# Altium footprint library RP2040LED.PcbLib: 20 footprints (part 1 of 2)
Each footprint in its own frame and in the unit in brackets; x right, y up, seen from the top. Pads: shape width x height; smd on the part's side, far side on the other; paste and mask are expansions set on the pad; w line width, h text height; cw(c..) or ccw(c..) is an arc to the next point about the centre after c.
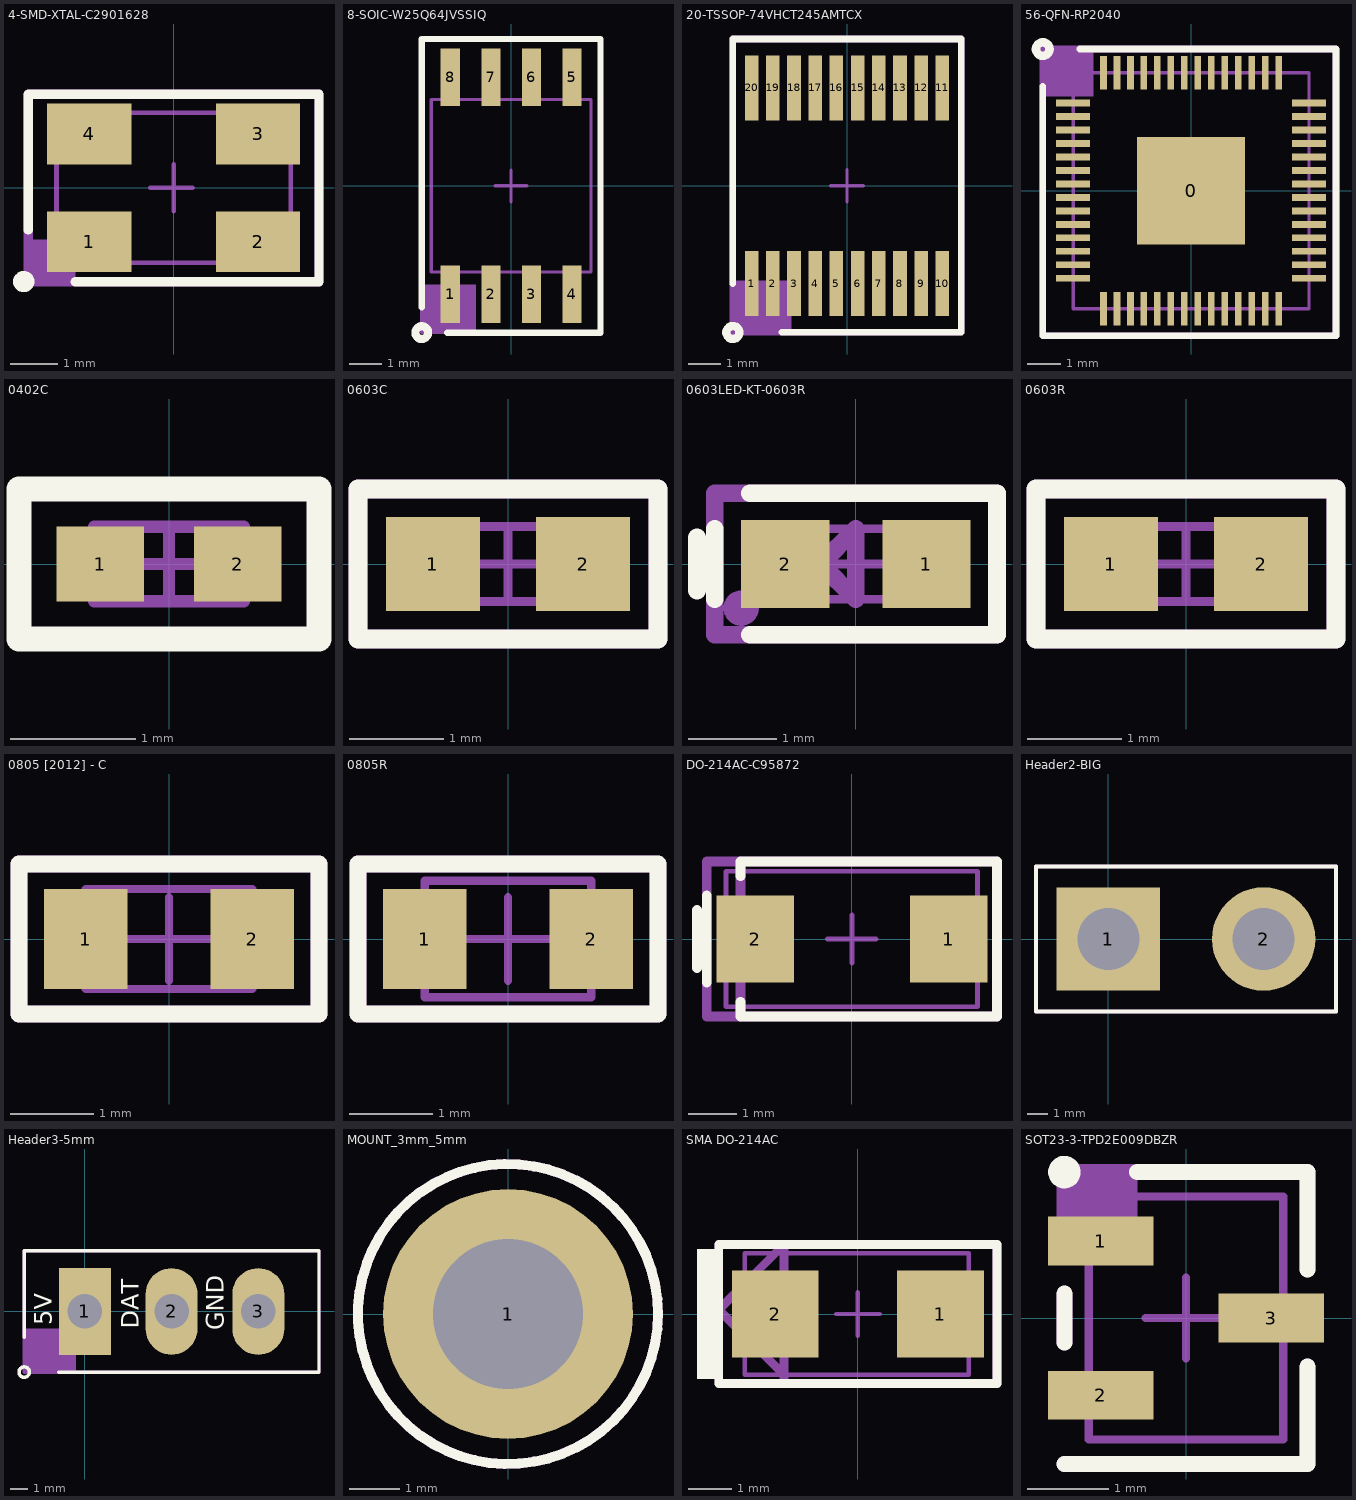
[diagram p0: the footprints below, top view; thin cyan lines are the x and y axes]

## 4-SMD-XTAL-C2901628 [mm] "SMD5032 JLC 12MHz 16pF 60ohm"
pads (4):
  rect 1.8x1.3 smd mask+0.06: 1(-1.8,-1.15) 2(1.8,-1.15) 3(1.8,1.15) 4(-1.8,1.15)
Top Overlay:
  circle w0.254: c-3.2,-2 r0.1
  lines w0.2: -3.1,-0.9 -3.1,2 3.1,2 3.1,-2 -2.1,-2
Assembly Text Top:
  text ".Designator" at -1.45,-0.3 h1
Assembly Top:
  rectangle: -3.1,-1.9 -2.1,-1.1
  lines w0.2: -3.1,-2 3.1,-2 3.1,2 -3.1,2 -3.1,-2
Courtyard Top:
  lines w0.1: -0.5,0 0.4,0 ; 0,-0.5 0,0.5 ; -2.5,-1.6 2.5,-1.6 2.5,1.6 -2.5,1.6 -2.5,-1.6
3D body: height 1.3, standoff 0, extent -2.5,-1.6 2.5,1.6

## 8-SOIC-W25Q64JVSSIQ [mm] "QSPI flash for RP2040 Winbond"
pads (8):
  rect 0.6x1.8 smd mask+0.07: 1(-1.905,-3.4) 2(-0.635,-3.4) 3(0.635,-3.4) 4(1.905,-3.4) 5(1.905,3.4) 6(0.635,3.4) 7(-0.635,3.4) 8(-1.905,3.4)
Top Overlay:
  circle w0.254: c-2.8,-4.6 r0.2
  lines w0.2: -2.8,-3.8 -2.8,4.6 2.8,4.6 2.8,-4.6 -2,-4.6
Assembly Text Top:
  text ".Designator" at -2,-0.6 h0.9
Assembly Top:
  rectangle: -2.8,-4.6 -1.1,-3.1
  lines w0.1: -2.8,-4.6 -2.8,4.6 2.8,4.6 2.8,-4.6 -2.8,-4.6
Courtyard Top:
  lines w0.1: -0.5,0 0.5,0 ; 0,-0.5 0,0.5 ; -2.5,-2.7 2.5,-2.7 2.5,2.7 -2.5,2.7 -2.5,-2.7
3D body: height 2.16, standoff 0, extent -2.64,-3.95 2.64,3.95

## 20-TSSOP-74VHCT245AMTCX [mm] "onsemi level shifter"
pads (20):
  rect 0.42x2 smd mask+0.04: 1(-2.925,-3) 2(-2.275,-3) 3(-1.625,-3) 4(-0.975,-3) 5(-0.325,-3) 6(0.325,-3) 7(0.975,-3) 8(1.625,-3) 9(2.275,-3) 10(2.925,-3) 11(2.925,3) 12(2.275,3) 13(1.625,3) 14(0.975,3) 15(0.325,3) 16(-0.325,3) 17(-0.975,3) 18(-1.625,3) 19(-2.275,3) 20(-2.925,3)
Top Overlay:
  circle w0.254: c-3.5,-4.5 r0.2
  lines w0.2: -3.5,-3 -3.5,4.5 3.5,4.5 3.5,-4.5 -2,-4.5
Assembly Text Top:
  text ".Designator" at -2.1,-0.6 h1
Assembly Top:
  rectangle: -3.5,-4.5 -1.7,-2.9
  lines w0.2: -3.5,-4.5 3.5,-4.5 3.5,4.5 -3.5,4.5 -3.5,-4.5
Courtyard Top:
  lines w0.1: -0.5,0 0.5,0 ; 0,-0.5 0,0.5
3D body: height 1.2, standoff 0, extent -3.25,-3.2 3.25,3.2

## 56-QFN-RP2040 [mm] "7x7mm"
pads (57):
  rect 3.2x3.2 smd paste-1.6 mask+0.1: 0(0,0)
  rect 1x0.2 smd mask+0.04: 1(-3.5,2.6) 2(-3.5,2.2) 3(-3.5,1.8) 4(-3.5,1.4) 5(-3.5,1) 6(-3.5,0.6) 7(-3.5,0.2) 8(-3.5,-0.2) 9(-3.5,-0.6) 10(-3.5,-1) 11(-3.5,-1.4) 12(-3.5,-1.8) 13(-3.5,-2.2) 14(-3.5,-2.6) 29(3.5,-2.6) 30(3.5,-2.2) 31(3.5,-1.8) 32(3.5,-1.4) 33(3.5,-1) 34(3.5,-0.6) 35(3.5,-0.2) 36(3.5,0.2) 37(3.5,0.6) 38(3.5,1) 39(3.5,1.4) 40(3.5,1.8) 41(3.5,2.2) 42(3.5,2.6)
  rect 0.2x1 smd mask+0.04: 15(-2.6,-3.5) 16(-2.2,-3.5) 17(-1.8,-3.5) 18(-1.4,-3.5) 19(-1,-3.5) 20(-0.6,-3.5) 21(-0.2,-3.5) 22(0.2,-3.5) 23(0.6,-3.5) 24(1,-3.5) 25(1.4,-3.5) 26(1.8,-3.5) 27(2.2,-3.5) 28(2.6,-3.5) 43(2.6,3.5) 44(2.2,3.5) 45(1.8,3.5) 46(1.4,3.5) 47(1,3.5) 48(0.6,3.5) 49(0.2,3.5) 50(-0.2,3.5) 51(-0.6,3.5) 52(-1,3.5) 53(-1.4,3.5) 54(-1.8,3.5) 55(-2.2,3.5) 56(-2.6,3.5)
Top Overlay:
  circle w0.254: c-4.4,4.2 r0.2
  lines w0.2: -4.4,3.1 -4.4,-4.3 4.3,-4.3 4.3,4.2 -3.3,4.2
Top Paste:
  rectangle: -1.4,-1.4 -0.2,-0.2
  region: 1.4,-0.2 0.2,-0.2 0.2,-1.4 1.4,-1.4
  region: 1.4,1.4 0.2,1.4 0.2,0.2 1.4,0.2
  rectangle: -1.4,0.2 -0.2,1.4
Assembly Text Top:
  text ".Designator" at -2,-0.4 h1
Assembly Top:
  rectangle: -4.4,2.8 -2.9,4.2
  lines w0.2: -4.4,-4.3 -4.4,4.2 4.3,4.2 4.3,-4.3 -4.4,-4.3
Courtyard Top:
  lines w0.1: -0.5,0 0.5,0 ; 0,-0.5 0,0.5 ; -3.5,-3.5 3.5,-3.5 3.5,3.5 -3.5,3.5 -3.5,-3.5
3D body: height 0.9, standoff 0, extent -3.5,-3.5 3.5,3.5

## 0402C [mm] "medium size"
pads (2):
  rect 0.7x0.6 smd: 1(-0.55,0) 2(0.55,0)
Top Overlay:
  lines w0.2: -1.2,-0.6 -1.2,0.6 1.2,0.6 1.2,-0.6 -1.2,-0.6
Assembly Text Top:
  text ".Designator" at -0.7,-0.3 h0.5
Assembly Top:
  lines w0.1: -1.2,-0.6 1.2,-0.6 1.2,0.6 -1.2,0.6 -1.2,-0.6
Courtyard Top:
  lines w0.1: -0.3,0 0.3,0 ; 0,-0.3 0,0.3 ; 0,0.3 -0.6,0.3 -0.6,-0.3 0.6,-0.3 0.6,0.3 0,0.3
3D body: height 0.6, standoff 0, extent 0.4,-0.3 0.6,0.3
3D body: height 0.6, standoff 0, extent -0.6,-0.3 -0.4,0.3
3D body: height 0.6, standoff 0, extent -0.4,-0.3 0.4,0.3

## 0603C [mm] "0.063\"\" L x 0.031\"\" W (1.60mm x 0.80mm)"
pads (2):
  rect 1x1 smd: 1(-0.8,0) 2(0.8,0)
Top Overlay:
  lines w0.2: -1.6,-0.8 -1.6,0.8 1.6,0.8 1.6,-0.8 -1.6,-0.8
Assembly Text Top:
  text ".Designator" at -0.71,-0.23 h0.6
Assembly Top:
  lines w0.2: -1.6,-0.8 -1.6,0.8 1.6,0.8 1.6,-0.8 -1.6,-0.8
Courtyard Top:
  lines w0.1: -0.5,0 0.5,0 ; 0,-0.4 0,0.4 ; -0.8,-0.4 -0.8,0.4 0.8,0.4 0.8,-0.4 -0.8,-0.4
3D body: height 1, standoff 0, extent 0.6,-0.4 0.8,0.4
3D body: height 1, standoff 0, extent -0.8,-0.4 -0.6,0.4
3D body: height 1, standoff 0, extent -0.6,-0.4 0.6,0.4

## 0603LED-KT-0603R [mm] "JLC red LED 0.063\"\" L x 0.031\"\" W (1.60mm x 0.80mm)"
pads (2):
  rect 1x1 smd: 1(0.8,0) 2(-0.8,0)
Top Overlay:
  lines w0.2: -1.8,-0.3 -1.8,0.3 ; -1.6,-0.4 -1.6,0.4 ; -1.2,-0.8 1.6,-0.8 1.6,0.8 -1.2,0.8
Assembly Text Top:
  text ".Designator" at -0.71,-0.23 h0.6
Assembly Top:
  circle w0.2: c-1.3,-0.5 r0.1
  lines w0.2: -0.5,-0.4 -0.5,0.4 ; 0.8,0 1.1,0 ; 1.1,-0.4 1.1,0.4 ; -1.6,-0.8 1.6,-0.8 1.6,0.8 -1.6,0.8 -1.6,-0.8 ; -0.4,0 0,0.4 0,-0.4 -0.4,0
Courtyard Top:
  lines w0.1: -0.5,0 0.5,0 ; 0,-0.4 0,0.4 ; -0.8,-0.4 0.8,-0.4 0.8,0.4 -0.8,0.4 -0.8,-0.4
3D body: height 0.6, standoff 0, extent -0.5,-0.4 0.5,0.4
3D body: height 0.2, standoff 0, extent -0.8,-0.4 -0.5,0.4
3D body: height 0.2, standoff 0, extent 0.5,-0.4 0.8,0.4

## 0603R [mm] "0.063\"\" L x 0.031\"\" W (1.60mm x 0.80mm)"
pads (2):
  rect 1x1 smd: 1(-0.8,0) 2(0.8,0)
Top Overlay:
  lines w0.2: -1.6,-0.8 -1.6,0.8 1.6,0.8 1.6,-0.8 -1.6,-0.8
Assembly Text Top:
  text ".Designator" at -0.71,-0.23 h0.6
Assembly Top:
  lines w0.2: -1.6,-0.8 -1.6,0.8 1.6,0.8 1.6,-0.8 -1.6,-0.8
Courtyard Top:
  lines w0.1: -0.5,0 0.5,0 ; 0,-0.4 0,0.4 ; -0.8,-0.4 -0.8,0.4 0.8,0.4 0.8,-0.4 -0.8,-0.4
3D body: height 0.6, standoff 0, extent 0.6,-0.4 0.8,0.4
3D body: height 0.6, standoff 0, extent -0.8,-0.4 -0.6,0.4
3D body: height 0.6, standoff 0, extent -0.6,-0.4 0.6,0.4

## 0805 [2012] - C [mm] "2 x 1.25 x 1.4mm - CL21A106KOQNNNE"
height 1.4
pads (2):
  rect 1x1.2 smd: 1(-1,0) 2(1,0)
Top Overlay:
  lines w0.2: -1.8,-0.9 1.8,-0.9 1.8,0.9 -1.8,0.9 -1.8,-0.9
Assembly Text Top:
  text ".Designator" at -1.4,-0.5 h0.9
Assembly Top:
  lines w0.2: -1.8,-0.9 1.8,-0.9 1.8,0.9 -1.8,0.9 -1.8,-0.9
Courtyard Top:
  lines w0.1: -0.5,0 0.5,0 ; 0,-0.5 0,0.5 ; -1,-0.6 1,-0.6 1,0.6 -1,0.6 -1,-0.6
3D body: height 1.35, standoff 0, extent -1,-0.625 1,0.625

## 0805R [mm] "model from ESR10EZPJ1R0"
height 1
pads (2):
  rect 1x1.2 smd: 1(-1,0) 2(1,0)
Top Overlay:
  lines w0.2: -1.8,-0.9 -1.8,0.9 1.8,0.9 1.8,-0.9 -1.8,-0.9
Assembly Text Top:
  text ".Designator" at -1.4,-0.5 h0.9
Assembly Top:
  lines w0.2: -1.8,-0.9 -1.8,0.9 1.8,0.9 1.8,-0.9 -1.8,-0.9
Courtyard Top:
  lines w0.1: -0.5,0 0.5,0 ; 0,-0.5 0,0.5 ; -1,-0.7 -1,0.7 1,0.7 1,-0.7 -1,-0.7
3D body: height 0.65, standoff 0, extent -1,-0.625 1,0.625

## DO-214AC-C95872 [mm] "JLC basic 1A"
pads (2):
  rect 1.6x1.8 smd mask+0.07: 1(2,0) 2(-2,0)
Top Overlay:
  lines w0.2: -3.2,-0.6 -3.2,0.6 ; -3,-0.9 -3,0.9 ; -2.3,-1.3 -2.3,-1.6 3,-1.6 3,1.6 -2.3,1.6 -2.3,1.3
Assembly Text Top:
  text ".Designator" at -1.2,-0.5 h1
Assembly Top:
  lines w0.2: -2.3,-1.6 -2.3,1.6 ; -3,-1.6 -3,1.6 3,1.6 3,-1.6 -3,-1.6
Courtyard Top:
  lines w0.1: -0.5,0 0.5,0 ; 0,-0.5 0,0.5 ; -2.6,-1.4 2.6,-1.4 2.6,1.4 -2.6,1.4 -2.6,-1.4
3D body: height 2.4, standoff 0, extent -2.597,-1.302 2.598,1.303

## Header2-BIG [mm] "7.5mm pitch 3mm hole 5mm pad"
pads (2):
  rect 5x5 hole 3 mask+0.1: 1(0,0)
  round 5 hole 3 mask+0.1: 2(7.5,0)
Top Overlay:
  lines w0.2: -3.5,-3.5 -3.5,3.5 11,3.5 11,-3.5 -3.5,-3.5
Assembly Text Top:
  text ".Designator" at 5,-2.5 h2
Assembly Top:
  lines w0.2: -3.5,-3.5 -3.5,3.5 11,3.5 11,-3.5 -3.5,-3.5

## Header3-5mm [mm] "5mm pitch 2mm hole 3-5mm pad"
pads (3):
  rect 3x5 hole 2 mask+0.1: 1(0,0)
  oval 3x5 hole 2 mask+0.1: 2(5,0) 3(10,0)
Top Overlay:
  circle w0.2: c-3.5,-3.5 r0.3
  lines w0.2: -3.5,-1.5 -3.5,3.5 13.5,3.5 13.5,-3.5 -1.5,-3.5
  text "GND" at 8,-1.1 h1
  text "DAT" at 3.1,-1 h1
  text "5V" at -1.9,-0.8 h1
Assembly Text Top:
  text ".Designator" at -1,-1 h2
Assembly Top:
  rectangle: -3.5,-3.5 -0.5,-1
  lines w0.2: -3.5,-3.5 -3.5,3.5 13.5,3.5 13.5,-3.5 -3.5,-3.5

## MOUNT_3mm_5mm [mm] "3mm hole 5mm pad 6mm keepout"
pads (1):
  round 5 hole 3 mask+0.1: 1(0,0)
Top Overlay:
  circle w0.2: c0,0 r3
Bottom Overlay:
  circle w0.2: c0,0 r3
Assembly Text Top:
  text ".Designator" at -0.5,-0.8 h1
Assembly Top:
  circle w0.2: c0,0 r3
Assembly Bottom:
  circle w0.2: c0,0 r3

## SMA DO-214AC [mm] "5.2 x 2.8 x 2.3mm - SMAJ5.0A-E3/61"
height 1.5
pads (2):
  rect 2x2 smd: 1(1.9,0) 2(-1.9,0)
Top Overlay:
  rectangle: -3.7,-1.5 -3.2,1.5
  lines w0.2: -3.2,-1.6 3.2,-1.6 3.2,1.6 -3.2,1.6 -3.2,-1.6
Assembly Text Top:
  text ".Designator" at -1.3,-0.5 h1
Assembly Top:
  lines w0.2: -3.2,0.1 -1.7,-1.4 -1.7,-1.6 -1.7,1.6 -3.2,0.1 ; -3.2,0.1 -3.2,0.1 ; -3.2,-1.6 3.2,-1.6 3.2,1.6 -3.2,1.6 -3.2,-1.6
Courtyard Top:
  lines w0.1: -0.5,0 0.5,0 ; 0,-0.5 0,0.5 ; -2.6,-1.4 -2.6,1.4 2.547,1.4 2.547,-1.4 -2.6,-1.4
3D body: height 2.2, standoff 2, extent -1.625,-1.3 -1.175,1.3
3D body: height 2.17, standoff 0, extent -2.547,-1.325 2.547,1.34

## SOT23-3-TPD2E009DBZR [mm]
pads (3):
  rect 1.3x0.6 smd mask+0.06: 1(-1.05,0.95) 2(-1.05,-0.95) 3(1.05,0)
Top Overlay:
  circle w0.2: c-1.5,1.8 r0.1
  lines w0.2: -1.5,-1.8 1.5,-1.8 1.5,-0.6 ; -1.5,-0.3 -1.5,0.3 ; -0.6,1.8 1.5,1.8 1.5,0.6
Assembly Text Top:
  text ".Designator" at -1.1,0.1 h0.6
Assembly Top:
  rectangle: -1.6,1 -0.6,1.8
  lines w0.2: -1.5,-1.8 1.5,-1.8 1.5,-0.6 ; -1.5,-0.3 -1.5,0.3 ; -1.5,1.8 1.5,1.8 1.5,0.6
Courtyard Top:
  lines w0.1: -0.5,0 0.5,0 ; 0,-0.5 0,0.5 ; -1.2,-1.5 -1.2,1.5 1.2,1.5 1.2,-1.5 -1.2,-1.5
3D body: height 1.12, standoff 0, extent -1.185,-1.46 1.185,1.46